# EAGLE library part 4201AS (library SW_Display)
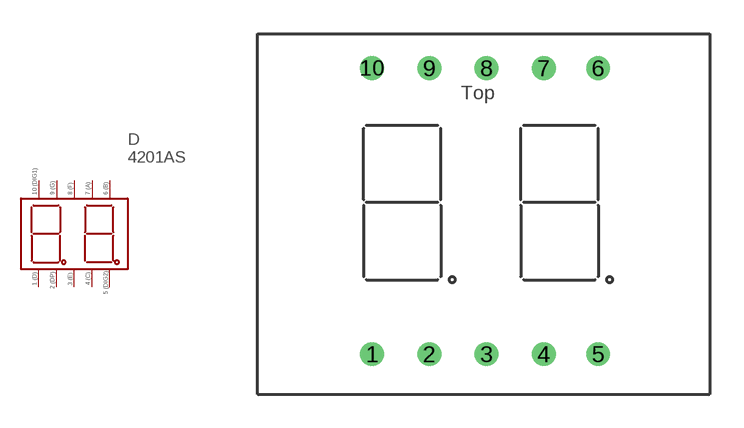
[diagram p0: symbol with the pads of 4201AS; footprint 4201AS]

Designator prefix D

## 4201AS (CATEGORY: Display; DESCRIPTION: Dual Common Cathode Seven Segment Display; MFGS: Aliexpress; MPNS: 4201AS)  [4201AS]
1  1(D)
2  2(DP)
3  3(E)
4  4(C)
5  5(DIG_2)
6  6(B)
7  7(A)
8  8(F)
9  9(G)
10  10

## Footprint 4201AS (pad centres in mm)
4201AS Footprint
drill 0.55: 1 5.08,1.778; 2 7.62,1.778; 3 10.16,1.778; 4 12.7,1.778; 5 15.113,1.778; 6 15.113,14.478; 7 12.7,14.478; 8 10.16,14.478; 9 7.62,14.478; 10 5.08,14.478